# EAGLE library part XC95144 (library XILINX)
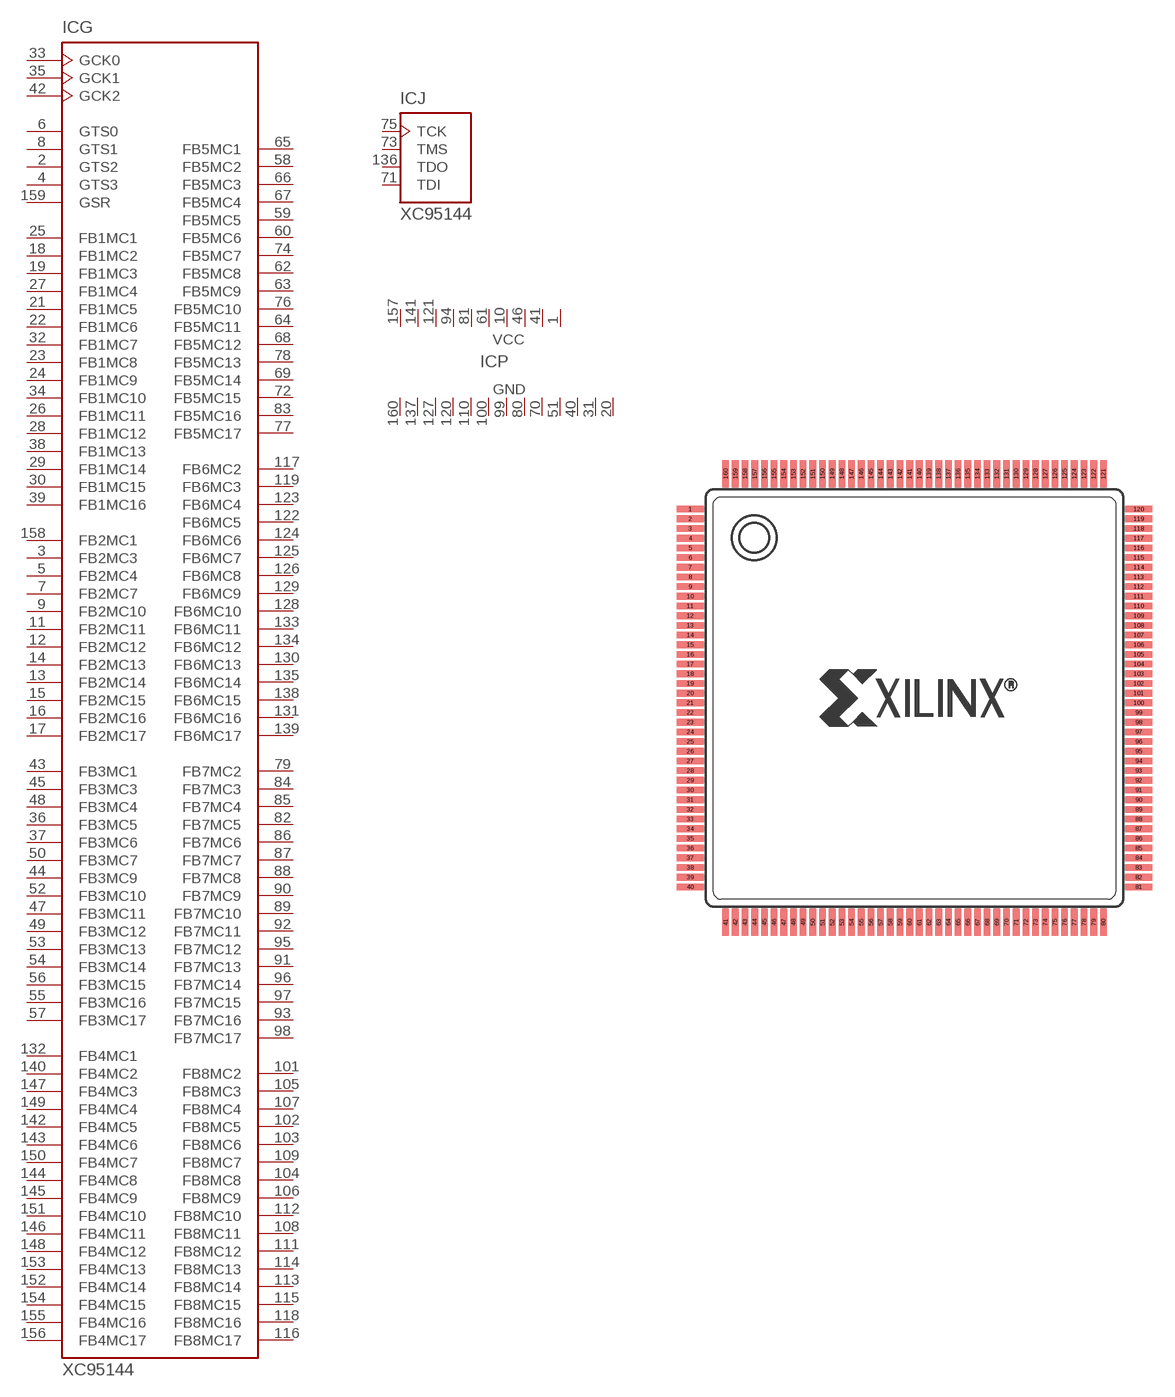
[diagram p3: symbol with the pads of PQ160; footprint PQ160]

Designator prefix IC; gates G=XC95144P J=JTAG P=PWR_144

## XC95144  [PQ160]
1  P:VCC  pwr
2  G:GTS2  in
3  G:FB2MC3
4  G:GTS3  in
5  G:FB2MC4
6  G:GTS0  in
7  G:FB2MC7
8  G:GTS1  in
9  G:FB2MC10
10  P:VCC  pwr
11  G:FB2MC11
12  G:FB2MC12
13  G:FB2MC14
14  G:FB2MC13
15  G:FB2MC15
16  G:FB2MC16
17  G:FB2MC17
18  G:FB1MC2
19  G:FB1MC3
20  P:GND  pwr
21  G:FB1MC5
22  G:FB1MC6
23  G:FB1MC8
24  G:FB1MC9
25  G:FB1MC1
26  G:FB1MC11
27  G:FB1MC4
28  G:FB1MC12
29  G:FB1MC14
30  G:FB1MC15
31  P:GND  pwr
32  G:FB1MC7
33  G:GCK0  in
34  G:FB1MC10
35  G:GCK1  in
36  G:FB3MC5
37  G:FB3MC6
38  G:FB1MC13
39  G:FB1MC16
40  P:GND  pwr
41  P:VCC  pwr
42  G:GCK2  in
43  G:FB3MC1
44  G:FB3MC9
45  G:FB3MC3
46  P:VCC  pwr
47  G:FB3MC11
48  G:FB3MC4
49  G:FB3MC12
50  G:FB3MC7
51  P:GND  pwr
52  G:FB3MC10
53  G:FB3MC13
54  G:FB3MC14
55  G:FB3MC16
56  G:FB3MC15
57  G:FB3MC17
58  G:FB5MC2
59  G:FB5MC5
60  G:FB5MC6
61  P:VCC  pwr
62  G:FB5MC8
63  G:FB5MC9
64  G:FB5MC11
65  G:FB5MC1
66  G:FB5MC3
67  G:FB5MC4
68  G:FB5MC12
69  G:FB5MC14
70  P:GND  pwr
71  J:TDI  in
72  G:FB5MC15
73  J:TMS  in
74  G:FB5MC7
75  J:TCK  in
76  G:FB5MC10
77  G:FB5MC17
78  G:FB5MC13
79  G:FB7MC2
80  P:GND  pwr
81  P:VCC  pwr
82  G:FB7MC5
83  G:FB5MC16
84  G:FB7MC3
85  G:FB7MC4
86  G:FB7MC6
87  G:FB7MC7
88  G:FB7MC8
89  G:FB7MC10
90  G:FB7MC9
91  G:FB7MC13
92  G:FB7MC11
93  G:FB7MC16
94  P:VCC  pwr
95  G:FB7MC12
96  G:FB7MC14
97  G:FB7MC15
98  G:FB7MC17
99  P:GND  pwr
100  P:GND  pwr
101  G:FB8MC2
102  G:FB8MC5
103  G:FB8MC6
104  G:FB8MC8
105  G:FB8MC3
106  G:FB8MC9
107  G:FB8MC4
108  G:FB8MC11
109  G:FB8MC7
110  P:GND  pwr
111  G:FB8MC12
112  G:FB8MC10
113  G:FB8MC14
114  G:FB8MC13
115  G:FB8MC15
116  G:FB8MC17
117  G:FB6MC2
118  G:FB8MC16
119  G:FB6MC3
120  P:GND  pwr
121  P:VCC  pwr
122  G:FB6MC5
123  G:FB6MC4
124  G:FB6MC6
125  G:FB6MC7
126  G:FB6MC8
127  P:GND  pwr
128  G:FB6MC10
129  G:FB6MC9
130  G:FB6MC13
131  G:FB6MC16
132  G:FB4MC1
133  G:FB6MC11
134  G:FB6MC12
135  G:FB6MC14
136  J:TDO  out
137  P:GND  pwr
138  G:FB6MC15
139  G:FB6MC17
140  G:FB4MC2
141  P:VCC  pwr
142  G:FB4MC5
143  G:FB4MC6
144  G:FB4MC8
145  G:FB4MC9
146  G:FB4MC11
147  G:FB4MC3
148  G:FB4MC12
149  G:FB4MC4
150  G:FB4MC7
151  G:FB4MC10
152  G:FB4MC14
153  G:FB4MC13
154  G:FB4MC15
155  G:FB4MC16
156  G:FB4MC17
157  P:VCC  pwr
158  G:FB2MC1
159  G:GSR  in
160  P:GND  pwr

## Footprint PQ160 (pad centres in mm)
smd 1.8 x 0.45: 1 -15.05,12.675; 2 -15.05,12.025; 3 -15.05,11.375; 4 -15.05,10.725; 5 -15.05,10.075; 6 -15.05,9.425; 7 -15.05,8.775; 8 -15.05,8.125; 9 -15.05,7.475; 10 -15.05,6.825; 11 -15.05,6.175; 12 -15.05,5.525; 13 -15.05,4.875; 14 -15.05,4.225; 15 -15.05,3.575; 16 -15.05,2.925; 17 -15.05,2.275; 18 -15.05,1.625; 19 -15.05,0.975; 20 -15.05,0.325; 21 -15.05,-0.325; 22 -15.05,-0.975; 23 -15.05,-1.625; 24 -15.05,-2.275; 25 -15.05,-2.925; 26 -15.05,-3.575; 27 -15.05,-4.225; 28 -15.05,-4.875; 29 -15.05,-5.525; 30 -15.05,-6.175; 31 -15.05,-6.825; 32 -15.05,-7.475; 33 -15.05,-8.125; 34 -15.05,-8.775; 35 -15.05,-9.425; 36 -15.05,-10.075; 37 -15.05,-10.725; 38 -15.05,-11.375; 39 -15.05,-12.025; 40 -15.05,-12.675; 81 15.05,-12.675; 82 15.05,-12.025; 83 15.05,-11.375; 84 15.05,-10.725; 85 15.05,-10.075; 86 15.05,-9.425; 87 15.05,-8.775; 88 15.05,-8.125; 89 15.05,-7.475; 90 15.05,-6.825; 91 15.05,-6.175; 92 15.05,-5.525; 93 15.05,-4.875; 94 15.05,-4.225; 95 15.05,-3.575; 96 15.05,-2.925; 97 15.05,-2.275; 98 15.05,-1.625; 99 15.05,-0.975; 100 15.05,-0.325; 101 15.05,0.325; 102 15.05,0.975; 103 15.05,1.625; 104 15.05,2.275; 105 15.05,2.925; 106 15.05,3.575; 107 15.05,4.225; 108 15.05,4.875; 109 15.05,5.525; 110 15.05,6.175; 111 15.05,6.825; 112 15.05,7.475; 113 15.05,8.125; 114 15.05,8.775; 115 15.05,9.425; 116 15.05,10.075; 117 15.05,10.725; 118 15.05,11.375; 119 15.05,12.025; 120 15.05,12.675
smd 0.45 x 1.8: 41 -12.675,-15.05; 42 -12.025,-15.05; 43 -11.375,-15.05; 44 -10.725,-15.05; 45 -10.075,-15.05; 46 -9.425,-15.05; 47 -8.775,-15.05; 48 -8.125,-15.05; 49 -7.475,-15.05; 50 -6.825,-15.05; 51 -6.175,-15.05; 52 -5.525,-15.05; 53 -4.875,-15.05; 54 -4.225,-15.05; 55 -3.575,-15.05; 56 -2.925,-15.05; 57 -2.275,-15.05; 58 -1.625,-15.05; 59 -0.975,-15.05; 60 -0.325,-15.05; 61 0.325,-15.05; 62 0.975,-15.05; 63 1.625,-15.05; 64 2.275,-15.05; 65 2.925,-15.05; 66 3.575,-15.05; 67 4.225,-15.05; 68 4.875,-15.05; 69 5.525,-15.05; 70 6.175,-15.05; 71 6.825,-15.05; 72 7.475,-15.05; 73 8.125,-15.05; 74 8.775,-15.05; 75 9.425,-15.05; 76 10.075,-15.05; 77 10.725,-15.05; 78 11.375,-15.05; 79 12.025,-15.05; 80 12.675,-15.05; 121 12.675,15.05; 122 12.025,15.05; 123 11.375,15.05; 124 10.725,15.05; 125 10.075,15.05; 126 9.425,15.05; 127 8.775,15.05; 128 8.125,15.05; 129 7.475,15.05; 130 6.825,15.05; 131 6.175,15.05; 132 5.525,15.05; 133 4.875,15.05; 134 4.225,15.05; 135 3.575,15.05; 136 2.925,15.05; 137 2.275,15.05; 138 1.625,15.05; 139 0.975,15.05; 140 0.325,15.05; 141 -0.325,15.05; 142 -0.975,15.05; 143 -1.625,15.05; 144 -2.275,15.05; 145 -2.925,15.05; 146 -3.575,15.05; 147 -4.225,15.05; 148 -4.875,15.05; 149 -5.525,15.05; 150 -6.175,15.05; 151 -6.825,15.05; 152 -7.475,15.05; 153 -8.125,15.05; 154 -8.775,15.05; 155 -9.425,15.05; 156 -10.075,15.05; 157 -10.725,15.05; 158 -11.375,15.05; 159 -12.025,15.05; 160 -12.675,15.05